# Altium schematic symbol library R-CRCW0603100KJNEA.Schlib: 1 symbol
Pins are listed as number, name and electrical type; pins without a type are passive.

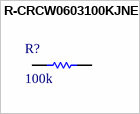
[diagram p0: symbol R-CRCW0603100KJNEA]

## R-CRCW0603100KJNEA
designator R?, comment 100k
Thick Film Resistors - SMD 1/10watt 100Kohms 5%
pins: 1, 2